# EAGLE library part KL02 (library powerfilm)
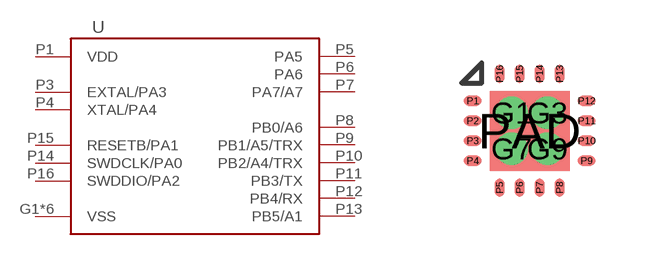
[diagram p1: symbol with the pads of WQFN-16; footprint WQFN-16]

Designator prefix U

## KL02 (DIGIKEY: MKL02Z8VFG4-ND)  [WQFN-16]
G1  VSS
G3  VSS
G7  VSS
G9  VSS
P1  VDD
P2  VSS
P3  EXTAL/PA3
P4  XTAL/PA4
P5  PA5
P6  PA6
P7  PA7/A7
P8  PB0/A6
P9  PB1/A5/TRX
P10  PB2/A4/TRX
P11  PB3/TX
P12  PB4/RX
P13  PB5/A1
P14  SWDCLK/PA0
P15  RESETB/PA1
P16  SWDDIO/PA2
PAD  VSS

## Footprint WQFN-16 (pad centres in mm)
drill 0.3 pad 0.5: G1 -0.45,0.45; G3 0.45,0.45; G7 -0.45,-0.45; G9 0.45,-0.45
smd 0.45 x 0.25: P1 -1.425,0.75; P2 -1.425,0.25; P3 -1.425,-0.25; P4 -1.425,-0.75; P9 1.425,-0.75; P10 1.425,-0.25; P11 1.425,0.25; P12 1.425,0.75
smd 0.25 x 0.45: P5 -0.75,-1.425; P6 -0.25,-1.425; P7 0.25,-1.425; P8 0.75,-1.425; P13 0.75,1.425; P14 0.25,1.425; P15 -0.25,1.425; P16 -0.75,1.425
smd 2 x 2: PAD 0,0